# Altium schematic symbol library 开关按键.SchLib: 1 symbol
Pins are listed as number, name and electrical type; pins without a type are passive.

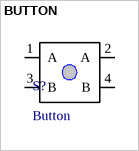
[diagram p0: symbol BUTTON]

## BUTTON
designator S?, comment Button
footprint Button (Button with 4 pins)
pins: 1 A "My Pad", 2 A "My Pad", 3 B "My Pad", 4 B "My Pad"